# EAGLE library part SULLINS34 (library sjg-con)
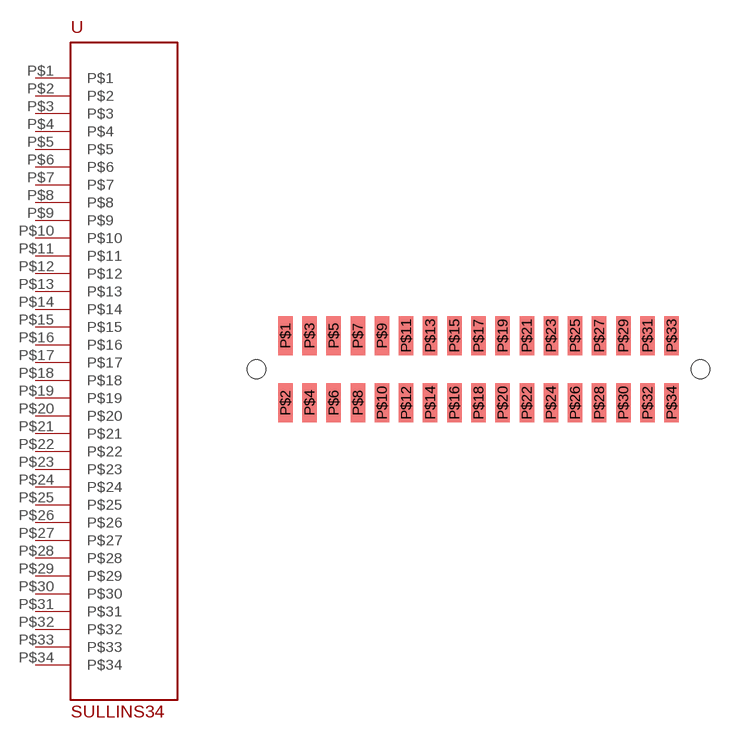
[diagram p0: symbol with the pads of SULLINS34; footprint SULLINS34]

Designator prefix -

## SULLINS34  [SULLINS34]
P$1  P$1
P$2  P$2
P$3  P$3
P$4  P$4
P$5  P$5
P$6  P$6
P$7  P$7
P$8  P$8
P$9  P$9
P$10  P$10
P$11  P$11
P$12  P$12
P$13  P$13
P$14  P$14
P$15  P$15
P$16  P$16
P$17  P$17
P$18  P$18
P$19  P$19
P$20  P$20
P$21  P$21
P$22  P$22
P$23  P$23
P$24  P$24
P$25  P$25
P$26  P$26
P$27  P$27
P$28  P$28
P$29  P$29
P$30  P$30
P$31  P$31
P$32  P$32
P$33  P$33
P$34  P$34

## Footprint SULLINS34 (pad centres in mm)
smd 0.762 x 2.057: P$1 -10.16,1.765; P$2 -10.16,-1.765; P$3 -8.89,1.765; P$4 -8.89,-1.765; P$5 -7.62,1.765; P$6 -7.62,-1.765; P$7 -6.35,1.765; P$8 -6.35,-1.765; P$9 -5.08,1.765; P$10 -5.08,-1.765; P$11 -3.81,1.765; P$12 -3.81,-1.765; P$13 -2.54,1.765; P$14 -2.54,-1.765; P$15 -1.27,1.765; P$16 -1.27,-1.765; P$17 0,1.765; P$18 0,-1.765; P$19 1.27,1.765; P$20 1.27,-1.765; P$21 2.54,1.765; P$22 2.54,-1.765; P$23 3.81,1.765; P$24 3.81,-1.765; P$25 5.08,1.765; P$26 5.08,-1.765; P$27 6.35,1.765; P$28 6.35,-1.765; P$29 7.62,1.765; P$30 7.62,-1.765; P$31 8.89,1.765; P$32 8.89,-1.765; P$33 10.16,1.765; P$34 10.16,-1.765
hole 0.991 at -11.684,0
hole 0.991 at 11.684,0